# Altium footprint library 68pF_Cap_C1206C680J5GACTU.PcbLib: 4 footprints
Each footprint in its own frame and in the unit in brackets; x right, y up, seen from the top. Pads: shape width x height; smd on the part's side, far side on the other; paste and mask are expansions set on the pad; w line width, h text height; cw(c..) or ccw(c..) is an arc to the next point about the centre after c.
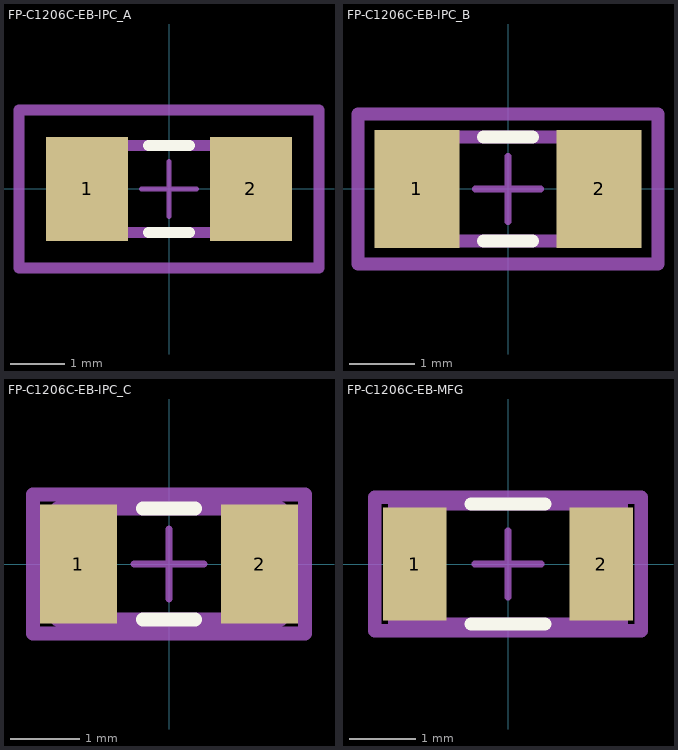
[diagram p0: the footprints below, top view; thin cyan lines are the x and y axes]

## FP-C1206C-EB-IPC_A [mm]
pads (2):
  rect 1.505x1.906 smd paste+0 mask+0: 1(-1.501,0) 2(1.501,0)
Top Overlay:
  lines w0.2: -0.373,-0.8 0.373,-0.8 ; -0.373,0.8 0.373,0.8
Top Assembly:
  lines w0.2: -2.753,-1.453 2.753,-1.453 2.753,1.453 -2.753,1.453 -2.753,-1.453
  text ".Designator" at 0,0.188 h1
Top 3D Body:
  lines w0.2: -1.6,-0.8 1.6,-0.8 1.6,0.8 -1.6,0.8 -1.6,-0.8
Top Courtyard:
  lines w0.2: -2.753,-1.453 2.753,-1.453 2.753,1.453 -2.753,1.453 -2.753,-1.453
Top Component Center:
  lines w0.1: -0.5,0 0.5,0 ; 0,-0.5 0,0.5
3D body "Cap_KEMET_C1206C472K4RACTU_eec.STEP": height 0.25, standoff 0, extent -2.753,-1.453 2.753,1.453

## FP-C1206C-EB-IPC_B [mm]
pads (2):
  rect 1.305x1.806 smd paste+0 mask+0: 1(-1.401,0) 2(1.401,0)
Top Overlay:
  lines w0.2: -0.373,-0.8 0.373,-0.8 ; -0.373,0.8 0.373,0.8
Top Assembly:
  lines w0.2: -2.303,-1.153 2.303,-1.153 2.303,1.153 -2.303,1.153 -2.303,-1.153
  text ".Designator" at 0,0.188 h1
Top 3D Body:
  lines w0.2: -1.6,-0.8 1.6,-0.8 1.6,0.8 -1.6,0.8 -1.6,-0.8
Top Courtyard:
  lines w0.2: -2.303,-1.153 2.303,-1.153 2.303,1.153 -2.303,1.153 -2.303,-1.153
Top Component Center:
  lines w0.1: -0.5,0 0.5,0 ; 0,-0.5 0,0.5
3D body "Cap_KEMET_C1206C472K4RACTU_eec.STEP": height 0.25, standoff 0, extent -2.303,-1.153 2.303,1.153

## FP-C1206C-EB-IPC_C [mm]
pads (2):
  rect 1.105x1.706 smd paste+0 mask+0: 1(-1.301,0) 2(1.301,0)
Top Overlay:
  lines w0.2: -0.373,-0.8 0.373,-0.8 ; -0.373,0.8 0.373,0.8
Top Assembly:
  lines w0.2: -1.953,-1 1.953,-1 1.953,1 -1.953,1 -1.953,-1
  text ".Designator" at 0,0.188 h1
Top 3D Body:
  lines w0.2: -1.6,-0.8 1.6,-0.8 1.6,0.8 -1.6,0.8 -1.6,-0.8
Top Courtyard:
  lines w0.2: -1.953,-1 1.953,-1 1.953,1 -1.953,1 -1.953,-1
Top Component Center:
  lines w0.1: -0.5,0 0.5,0 ; 0,-0.5 0,0.5
3D body "Cap_KEMET_C1206C472K4RACTU_eec.STEP": height 0.25, standoff 0, extent -1.953,-1 1.953,1

## FP-C1206C-EB-MFG [mm]
pads (2):
  rect 0.95x1.7 smd paste+0 mask+0: 1(-1.4,0) 2(1.4,0)
Top Overlay:
  lines w0.2: -0.55,-0.9 0.55,-0.9 ; -0.55,0.9 0.55,0.9
Top Assembly:
  lines w0.2: -2,-1 2,-1 2,1 -2,1 -2,-1
  text ".Designator" at 0,0.188 h1
Top 3D Body:
  lines w0.2: -1.7,-0.9 1.7,-0.9 1.7,0.9 -1.7,0.9 -1.7,-0.9
Top Courtyard:
  lines w0.2: -2,-1 2,-1 2,1 -2,1 -2,-1
Top Component Center:
  lines w0.1: -0.5,0 0.5,0 ; 0,-0.5 0,0.5
3D body "Cap_KEMET_C1206C472K4RACTU_eec.STEP": height 0.25, standoff 0, extent -2,-1 2,1